# Altium schematic symbol library Mechanics.SchLib: 7 symbols
Pins are listed as number, name and electrical type; pins without a type are passive.

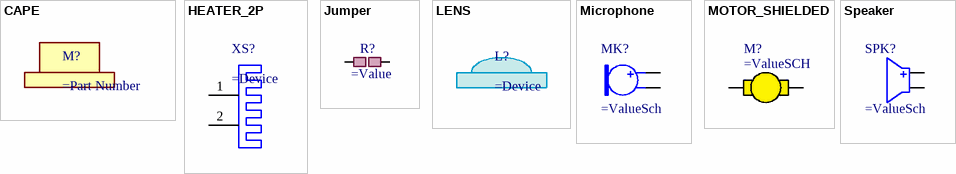
[diagram p0: symbols CAPE to Speaker]

## CAPE
designator M?

## HEATER_2P
designator XS?
pins: 1 PIN, 2 PIN

## Jumper
designator R?
pins: 1, 2

## LENS
designator L?

## Microphone
designator MK?
Electret microphone
pins: MN, MP

## MOTOR_SHIELDED
designator M?
pins: 1, 2, SHLD hidden to GND

## Speaker
designator SPK?
Electret microphone
pins: 1, 2